# Altium schematic symbol library SCH - LOGIC - SN65C1168ENSR.SCHLIB: 1 symbol
Pins are listed as number, name and electrical type; pins without a type are passive.

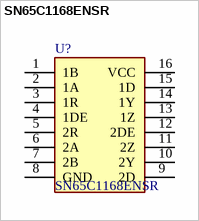
[diagram p0: symbol SN65C1168ENSR]

## SN65C1168ENSR
designator U?
Integrated Circuit
pins: 1 1B, 2 1A, 3 1R, 4 1DE, 5 2R, 6 2A, 7 2B, 8 GND, 9 2D, 10 2Y, 11 2Z, 12 2DE, 13 1Z, 14 1Y, 15 1D, 16 VCC